# Altium footprint library Resistor.PcbLib: 15 footprints
Each footprint in its own frame and in the unit in brackets; x right, y up, seen from the top. Pads: shape width x height; smd on the part's side, far side on the other; paste and mask are expansions set on the pad; w line width, h text height; cw(c..) or ccw(c..) is an arc to the next point about the centre after c.
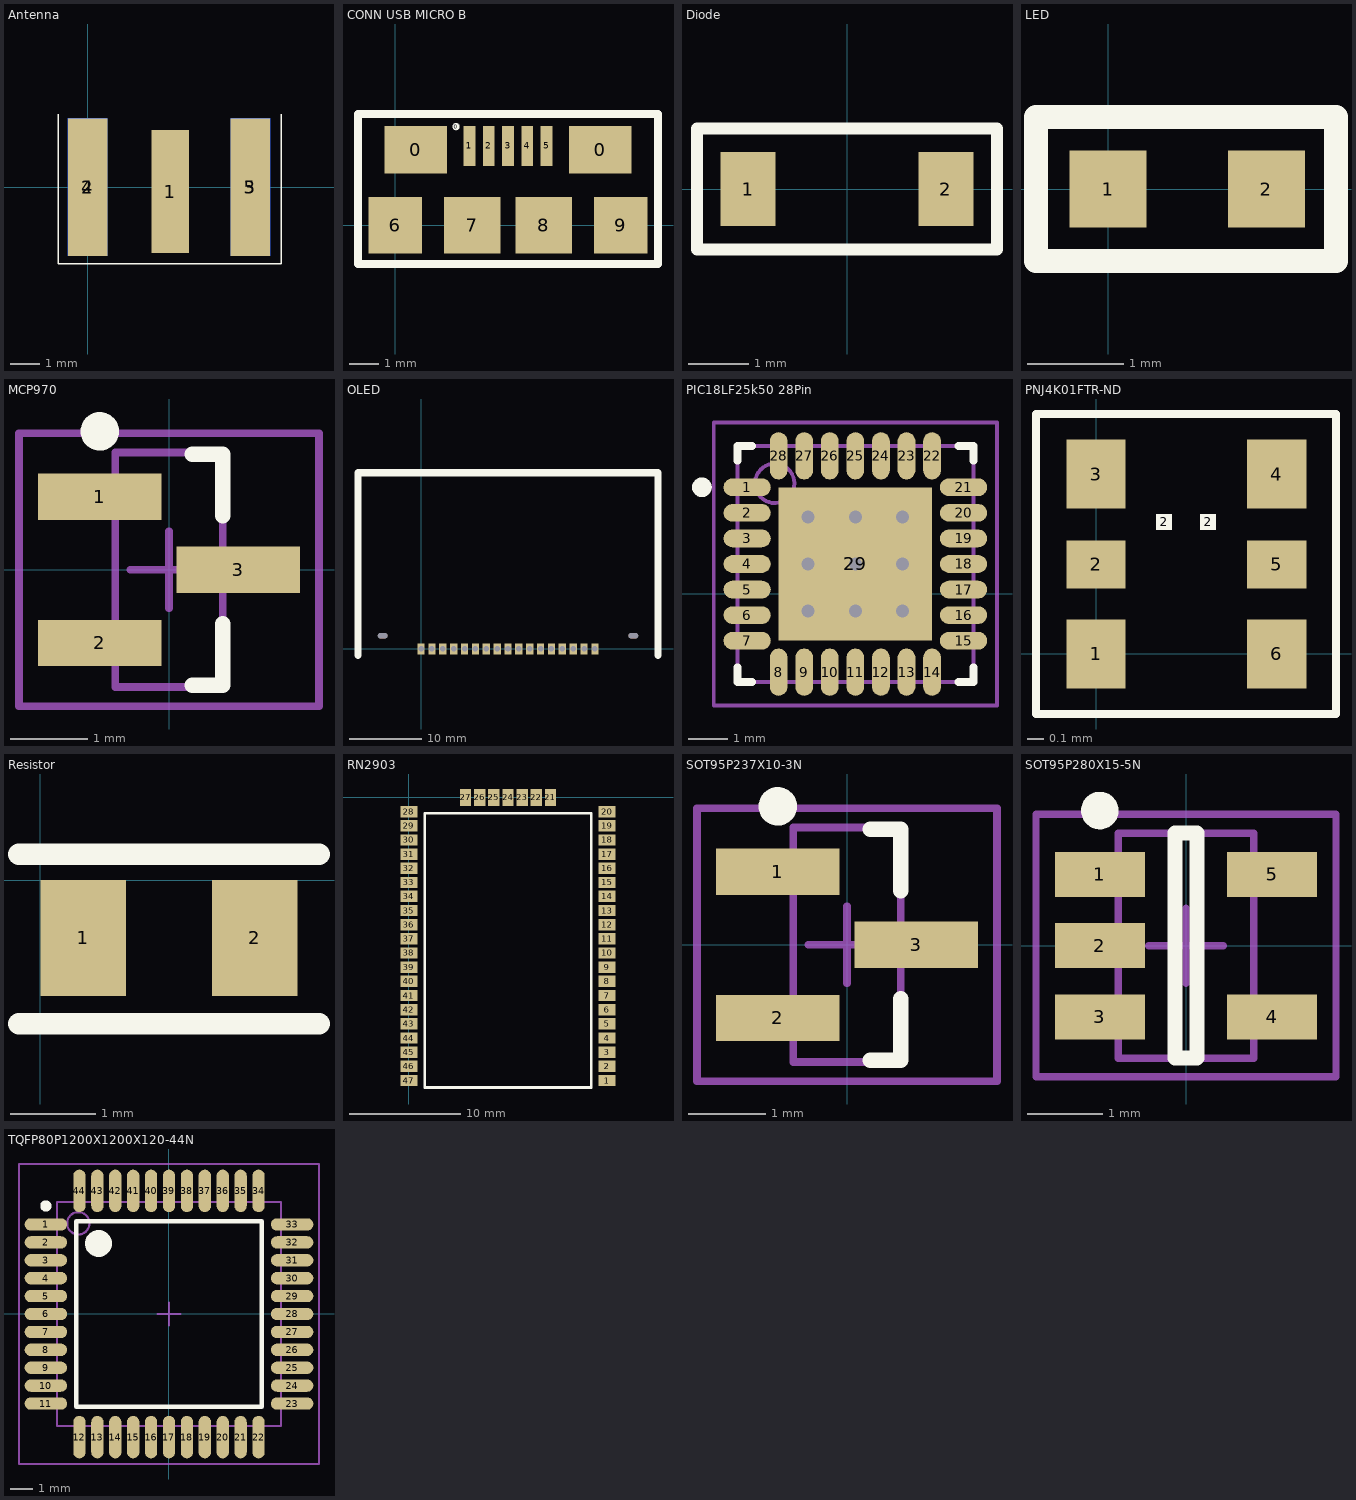
[diagram p0: the footprints below, top view; thin cyan lines are the x and y axes]

## Antenna [mm] "SMA-J-P-X-ST-EM1"
pads (5):
  rect 1.27x4.2 smd: 1(2.825,-0.15)
  rect 1.35x4.7 smd: 2(0,0) 3(5.56,0)
  rect 1.35x4.7 smd far side: 4(0,0) 5(5.56,0)
Top Overlay:
  lines w0.05: -1,2.5 -1,-2.625 6.625,-2.625 6.625,2.5

## CONN USB MICRO B [mm] "10118192-0001LF"
pads (12):
  rect 2.1x1.6 smd: 0(0.7,2.55) 0(6.9,2.55)
  round 0.25 on Top Overlay: 0(2.05,3.325)
  rect 0.4x1.35 smd: 1(2.5,2.675) 2(3.15,2.675) 3(3.8,2.675) 4(4.45,2.675) 5(5.1,2.675)
  rect 1.8x1.9 smd: 6(0,0) 9(7.6,0)
  rect 1.9x1.9 smd: 7(2.6,0) 8(5,0)
Top Overlay:
  lines w0.254: -1.25,-1.3 -1.25,3.75 8.85,3.75 8.85,-1.3 -1.25,-1.3

## Diode [mm]
pads (2):
  rect 0.91x1.22 smd: 1(-1.635,0) 2(1.635,0)
Top Overlay:
  lines w0.2: -2.48,-1 2.48,-1 2.48,1 -2.48,1 -2.48,0 -2.48,-1

## LED [mm] "APT1608EC"
pads (2):
  rect 0.8x0.8 smd: 1(0,0) 2(1.65,0)
Top Overlay:
  lines w0.254: -0.75,-0.75 -0.75,0.75 2.375,0.75 2.375,-0.75 -0.75,-0.75

## MCP970 [mm] "MCP9701T-E/TT"
height 0.1
pads (3):
  rect 1.6x0.6 smd: 1(-0.9,0.95) 2(-0.9,-0.95) 3(0.9,0)
Top Overlay:
  circle w0.25: c-0.9,1.8 r0.125
  lines w0.2: 0.3,-1.5 0.7,-1.5 0.7,-0.7 ; 0.3,1.5 0.7,1.5 0.7,0.7
Mechanical 13:
  lines w0.1: -0.7,-1.525 -0.7,1.525 0.7,1.525 0.7,-1.525 -0.7,-1.525
Mechanical 15:
  lines w0.1: -0.5,0 0.5,0 ; 0,-0.5 0,0.5 ; -1.95,-1.775 -1.95,1.775 1.95,1.775 1.95,-1.775 -1.95,-1.775
3D body: height 1.12, standoff 0.1, extent -0.7,-1.525 0.7,1.525

## MCP9700 [mm]

## MINI_PCI-E [mm] "PCI-E Connector"

## OLED [mm] "NHD-C12832A1Z-FSW-FBW-3V3"
pads (19):
  rect 1x1.524 hole 0.762: 1(0,0) 2(1.5,0) 3(3,0) 4(4.5,0) 5(6,0) 6(7.5,0) 7(9,0) 8(10.5,0) 9(12,0) 10(13.5,0) 11(15,0) 12(16.5,0) 13(18,0) 14(19.5,0) 15(21,0) 16(22.5,0) 17(24,0)
  oval 1.3x0.7 hole 0.7 slot 1.3 at 0 deg: 18(-5.3,1.8) 19(29.3,1.8)
Top Overlay:
  lines w1: -8.7,-0.9 -8.7,0 -8.7,24.3 32.7,24.3 32.7,-0.9
3D body: height 2, standoff 0, extent 23.5,-1.2 24.5,0.775
3D body: height 2, standoff 0, extent 22,-1.2 23,0.775
3D body: height 2, standoff 0, extent 20.5,-1.2 21.5,0.775
3D body: height 2, standoff 0, extent 19,-1.2 20,0.775
3D body: height 2, standoff 0, extent 17.5,-1.2 18.5,0.775
3D body: height 2, standoff 0, extent 16,-1.2 17,0.775
3D body: height 2, standoff 0, extent 14.5,-1.2 15.5,0.775
3D body: height 2, standoff 0, extent 13,-1.2 14,0.775
3D body: height 2, standoff 0, extent 11.5,-1.2 12.5,0.775
3D body: height 2, standoff 0, extent 10,-1.2 11,0.775
3D body: height 2, standoff 0, extent 8.5,-1.2 9.5,0.775
3D body: height 2, standoff 0, extent 7,-1.2 8,0.775
3D body: height 2, standoff 0, extent 5.5,-1.2 6.5,0.775
3D body: height 2, standoff 0, extent 4,-1.2 5,0.775
3D body: height 2, standoff 0, extent 2.5,-1.2 3.5,0.775
3D body: height 2, standoff 0, extent 1,-1.2 2,0.775
3D body: height 2, standoff 0, extent -0.5,-1.2 0.5,0.775
3D body: height 4.1, standoff 0, extent -8.675,6.85 32.75,23.475
3D body: height 4.1, standoff 0, extent -8.675,6.85 32.75,23.475
3D body: height 1.9, standoff 0, extent -8.775,-0.95 32.875,24.375

## PIC18LF25k50 28Pin [mm] "QFN, 28-Leads, Body 6.0x6.0mm (max), Pitch 0.65mm, IPC Medium Density"
height 1
pads (29):
  oval 1.2x0.45 smd: 1(-8.45,2.7) 2(-8.45,2.05) 3(-8.45,1.4) 4(-8.45,0.75) 5(-8.45,0.1) 6(-8.45,-0.55) 7(-8.45,-1.2) 15(-2.95,-1.2) 16(-2.95,-0.55) 17(-2.95,0.1) 18(-2.95,0.75) 19(-2.95,1.4) 20(-2.95,2.05) 21(-2.95,2.7)
  oval 0.45x1.2 smd: 8(-7.65,-2) 9(-7,-2) 10(-6.35,-2) 11(-5.7,-2) 12(-5.05,-2) 13(-4.4,-2) 14(-3.75,-2) 22(-3.75,3.5) 23(-4.4,3.5) 24(-5.05,3.5) 25(-5.7,3.5) 26(-6.35,3.5) 27(-7,3.5) 28(-7.65,3.5)
  rect 3.9x3.9 smd: 29(-5.7,0.75)
via -6.9,1.95 diameter 0.66 hole 0.33
via -5.7,1.95 diameter 0.66 hole 0.33
via -4.5,1.95 diameter 0.66 hole 0.33
via -6.9,0.75 diameter 0.66 hole 0.33
via -5.7,0.75 diameter 0.66 hole 0.33
via -4.5,0.75 diameter 0.66 hole 0.33
via -6.9,-0.45 diameter 0.66 hole 0.33
via -5.7,-0.45 diameter 0.66 hole 0.33
via -4.5,-0.45 diameter 0.66 hole 0.33
Top Overlay:
  circle w0.25: c-9.6,2.7 r0.125
  lines w0.2: -8.7,-1.875 -8.7,-2.25 -8.325,-2.25 ; -8.7,3.375 -8.7,3.75 -8.325,3.75 ; -3.075,-2.25 -2.7,-2.25 -2.7,-1.875 ; -3.075,3.75 -2.7,3.75 -2.7,3.375
Mechanical 13:
  circle w0.1: c-7.75,2.8 r0.5
  lines w0.1: -8.7,-2.25 -8.7,3.75 -2.7,3.75 -2.7,-2.25 -8.7,-2.25
Mechanical 15:
  lines w0.1: -6.2,0.75 -5.2,0.75 ; -5.7,0.25 -5.7,1.25 ; -9.3,-2.85 -9.3,4.35 -2.1,4.35 -2.1,-2.85 -9.3,-2.85
3D body: height 1, standoff 0.05, extent -8.7,-2.25 -2.7,3.75

## PNJ4K01FTR-ND [mm] "PNJ4K01F"
pads (8):
  rect 0.37x0.43 smd: 1(0,0) 3(0,1.125) 4(1.13,1.125) 6(1.13,0)
  rect 0.37x0.3 smd: 2(0,0.56) 5(1.13,0.56)
  rect 0.1x0.1 on Top Overlay: 2(0.425,0.825) 2(0.7,0.825)
Top Overlay:
  lines w0.05: -0.375,-0.375 1.5,-0.375 1.5,1.5 -0.375,1.5 -0.375,-0.375
3D body: height 0.53, standoff 0, extent -0.075,-0.225 1.2,1.35

## Resistor [mm] "RNCF0805DTE10K0"
pads (2):
  rect 1x1.35 smd: 1(0.5,-0.675) 2(2.5,-0.675)
Top Overlay:
  lines w0.254: -0.25,-1.675 3.25,-1.675 ; -0.25,0.3 3.25,0.3

## RN2903 [mil]
pads (47):
  rect 60x40 smd mask+3.94: 1(700,-999.61) 2(700,-949.61) 3(700,-899.61) 4(700,-849.61) 5(700,-799.61) 6(700,-749.61) 7(700,-699.61) 8(700,-649.21) 9(700,-599.21) 10(700,-549.21) 11(700,-499.21) 12(700,-449.21) 13(700,-399.21) 14(700,-349.21) 15(700,-300) 16(700,-250) 17(700,-200) 18(700,-150) 19(700,-100) 20(700,-50) 28(0,-50) 29(0,-100) 30(0,-150) 31(0,-200) 32(0,-250) 33(0,-300) 34(0,-349.21) 35(0,-399.21) 36(0,-449.21) 37(0,-499.21) 38(0,-549.21) 39(0,-599.21) 40(0,-649.21) 41(0,-699.61) 42(0,-749.61) 43(0,-799.61) 44(0,-849.61) 45(0,-899.61) 46(0,-949.61) 47(0,-999.61)
  rect 40x60 smd mask+3.94: 21(500,0) 22(450,0) 23(400,0) 24(350,0) 25(300,0) 26(250,0) 27(200,0)
Top Overlay:
  lines w10: 55.91,-1024.02 55.91,-55.91 644.09,-55.91 644.09,-1024.02 55.91,-1024.02
3D body: height 31.5, standoff 0, extent 0,-1050.2 699.8,0
3D body: height 131.5, standoff 0, extent 56.1,-1023.62 643.7,-56.1

## SOT95P237X10-3N [mm] "SOT23, 3-Leads, Body 3.0x2.6mm (max), Pitch 0.95mm, IPC Medium Density"
height 0.1
pads (3):
  rect 1.6x0.6 smd: 1(-0.9,0.95) 2(-0.9,-0.95) 3(0.9,0)
Top Overlay:
  circle w0.25: c-0.9,1.8 r0.125
  lines w0.2: 0.3,-1.5 0.7,-1.5 0.7,-0.7 ; 0.3,1.5 0.7,1.5 0.7,0.7
Mechanical 13:
  lines w0.1: -0.7,-1.525 0.7,-1.525 0.7,1.525 -0.7,1.525 -0.7,-1.525
Mechanical 15:
  lines w0.1: -0.5,0 0.5,0 ; 0,-0.5 0,0.5 ; -1.95,-1.775 1.95,-1.775 1.95,1.775 -1.95,1.775 -1.95,-1.775
3D body: height 1.12, standoff 0.1, extent -0.7,-1.525 0.7,1.525

## SOT95P280X15-5N [mm] "SOT23, 5-Leads, Body 3.0x3.1mm (max), Pitch 0.95mm, IPC Medium Density"
height 0.15
pads (5):
  rect 1.2x0.6 smd: 1(-1.15,0.95) 2(-1.15,0) 3(-1.15,-0.95) 4(1.15,-0.95) 5(1.15,0.95)
Top Overlay:
  circle w0.25: c-1.15,1.8 r0.125
  lines w0.2: -0.15,-1.5 0.15,-1.5 0.15,1.5 -0.15,1.5 -0.15,-1.5
Mechanical 13:
  lines w0.1: -0.9,-1.5 -0.9,1.5 0.9,1.5 0.9,-1.5 -0.9,-1.5
Mechanical 15:
  lines w0.1: -0.5,0 0.5,0 ; 0,-0.5 0,0.5 ; -2,-1.75 -2,1.75 2,1.75 2,-1.75 -2,-1.75
3D body: height 1.45, standoff 0.15, extent -0.9,-1.5 0.9,1.5

## TQFP80P1200X1200X120-44N [mm] "TQFP, 44-Leads, Body 12.0x12.0mm (max), Pitch 0.80mm, IPC Medium Density"
height 1.2
pads (44):
  oval 1.9x0.55 smd: 1(-5.5,4) 2(-5.5,3.2) 3(-5.5,2.4) 4(-5.5,1.6) 5(-5.5,0.8) 6(-5.5,0) 7(-5.5,-0.8) 8(-5.5,-1.6) 9(-5.5,-2.4) 10(-5.5,-3.2) 11(-5.5,-4) 23(5.5,-4) 24(5.5,-3.2) 25(5.5,-2.4) 26(5.5,-1.6) 27(5.5,-0.8) 28(5.5,0) 29(5.5,0.8) 30(5.5,1.6) 31(5.5,2.4) 32(5.5,3.2) 33(5.5,4)
  oval 0.55x1.9 smd: 12(-4,-5.5) 13(-3.2,-5.5) 14(-2.4,-5.5) 15(-1.6,-5.5) 16(-0.8,-5.5) 17(0,-5.5) 18(0.8,-5.5) 19(1.6,-5.5) 20(2.4,-5.5) 21(3.2,-5.5) 22(4,-5.5) 34(4,5.5) 35(3.2,5.5) 36(2.4,5.5) 37(1.6,5.5) 38(0.8,5.5) 39(0,5.5) 40(-0.8,5.5) 41(-1.6,5.5) 42(-2.4,5.5) 43(-3.2,5.5) 44(-4,5.5)
Top Overlay:
  circle w0.6: c-3.15,3.15 r0.3
  circle w0.25: c-5.5,4.825 r0.125
  lines w0.2: -4.15,-4.15 4.15,-4.15 4.15,4.15 -4.15,4.15 -4.15,-4.15
Mechanical 13:
  circle w0.1: c-4.05,4.05 r0.5
  lines w0.1: -5,-5 5,-5 5,5 -5,5 -5,-5
Mechanical 15:
  lines w0.1: -0.5,0 0.5,0 ; 0,-0.5 0,0.5 ; -6.7,-6.7 6.7,-6.7 6.7,6.7 -6.7,6.7 -6.7,-6.7
3D body: height 1.2, standoff 0.05, extent -5,-5 5,5